# Altium schematic symbol library LM324DT.SchLib: 1 symbol
Pins are listed as number, name and electrical type; pins without a type are passive.

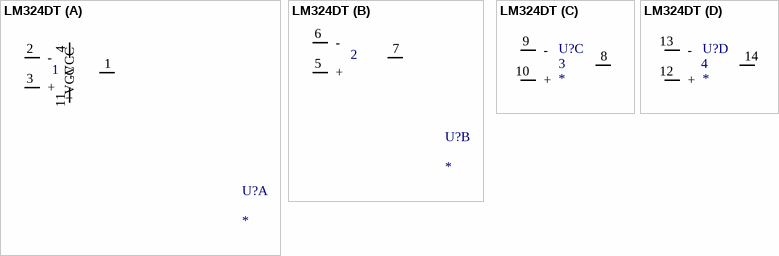
[diagram p0: symbol LM324DT]

## LM324DT
designator U?
part A pins: 1, 2 -, 3 +, 4 +VCC (power), 11 -VCC (power)
part B pins: 5 +, 6 -, 7
part C pins: 8, 9 -, 10 +
part D pins: 12 +, 13 -, 14